# EAGLE library part PI5V331 (library Jim)
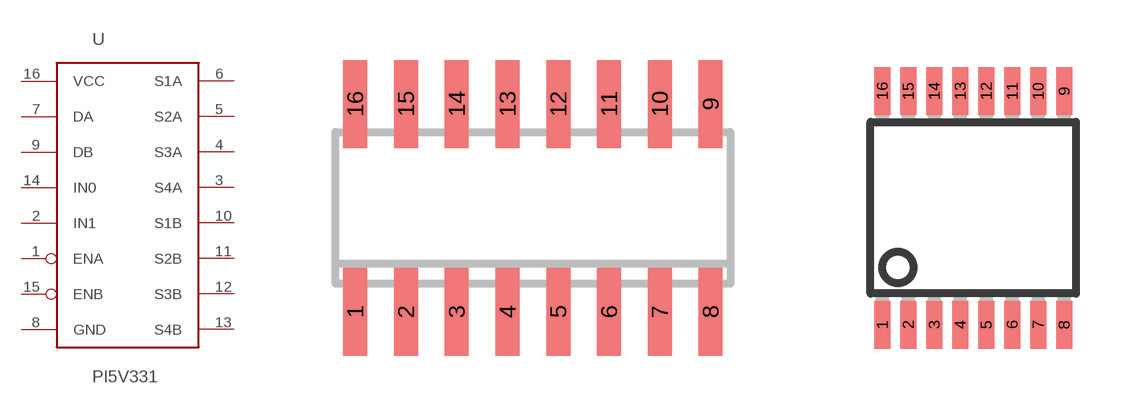
[diagram p8: symbol with the pads of SO16; footprints SO16, SSOP16]

Designator prefix -

## PI5V331SOIC  [SO16]
1  ENA  in
2  IN1  in
3  S4A
4  S3A
5  S2A
6  S1A
7  DA
8  GND  pwr
9  DB
10  S1B
11  S2B
12  S3B
13  S4B
14  IN0  in
15  ENB  in
16  VCC  pwr

## PI5V331SSOP  [SSOP16]
Pads as for SO16

## PI5V331Q  [Q16]
Pads as for SO16

## Footprint SO16 (pad centres in mm)
SMALL OUTLINE INTEGRATED CIRCUIT body 3.9 mm/JEDEC MS-012AC
smd 0.6 x 2.2: 1 -4.445,-2.6; 2 -3.175,-2.6; 3 -1.905,-2.6; 4 -0.635,-2.6; 5 0.635,-2.6; 6 1.905,-2.6; 7 3.175,-2.6; 8 4.445,-2.6; 9 4.445,2.6; 10 3.175,2.6; 11 1.905,2.6; 12 0.635,2.6; 13 -0.635,2.6; 14 -1.905,2.6; 15 -3.175,2.6; 16 -4.445,2.6

## Footprint SSOP16 (pad centres in mm)
Small Shrink Outline Package
smd 0.4 x 1.2: 1 -2.275,-2.925; 2 -1.625,-2.925; 3 -0.975,-2.925; 4 -0.325,-2.925; 5 0.325,-2.925; 6 0.975,-2.925; 7 1.625,-2.925; 8 2.275,-2.925; 9 2.275,2.925; 10 1.625,2.925; 11 0.975,2.925; 12 0.325,2.925; 13 -0.325,2.925; 14 -0.975,2.925; 15 -1.625,2.925; 16 -2.275,2.925

## Footprint Q16 (pad centres in mm)
smd 0.4 x 1.2: 1 -2.223,-2.857; 2 -1.587,-2.857; 3 -0.953,-2.857; 4 -0.318,-2.857; 5 0.318,-2.857; 6 0.953,-2.857; 7 1.587,-2.857; 8 2.223,-2.857; 9 2.223,2.857; 10 1.587,2.857; 11 0.953,2.857; 12 0.318,2.857; 13 -0.318,2.857; 14 -0.953,2.857; 15 -1.587,2.857; 16 -2.223,2.857